# Altium integrated library TI Data Converters Analog to Digital Converter.IntLib: 2197 symbols (part 161 of 168)
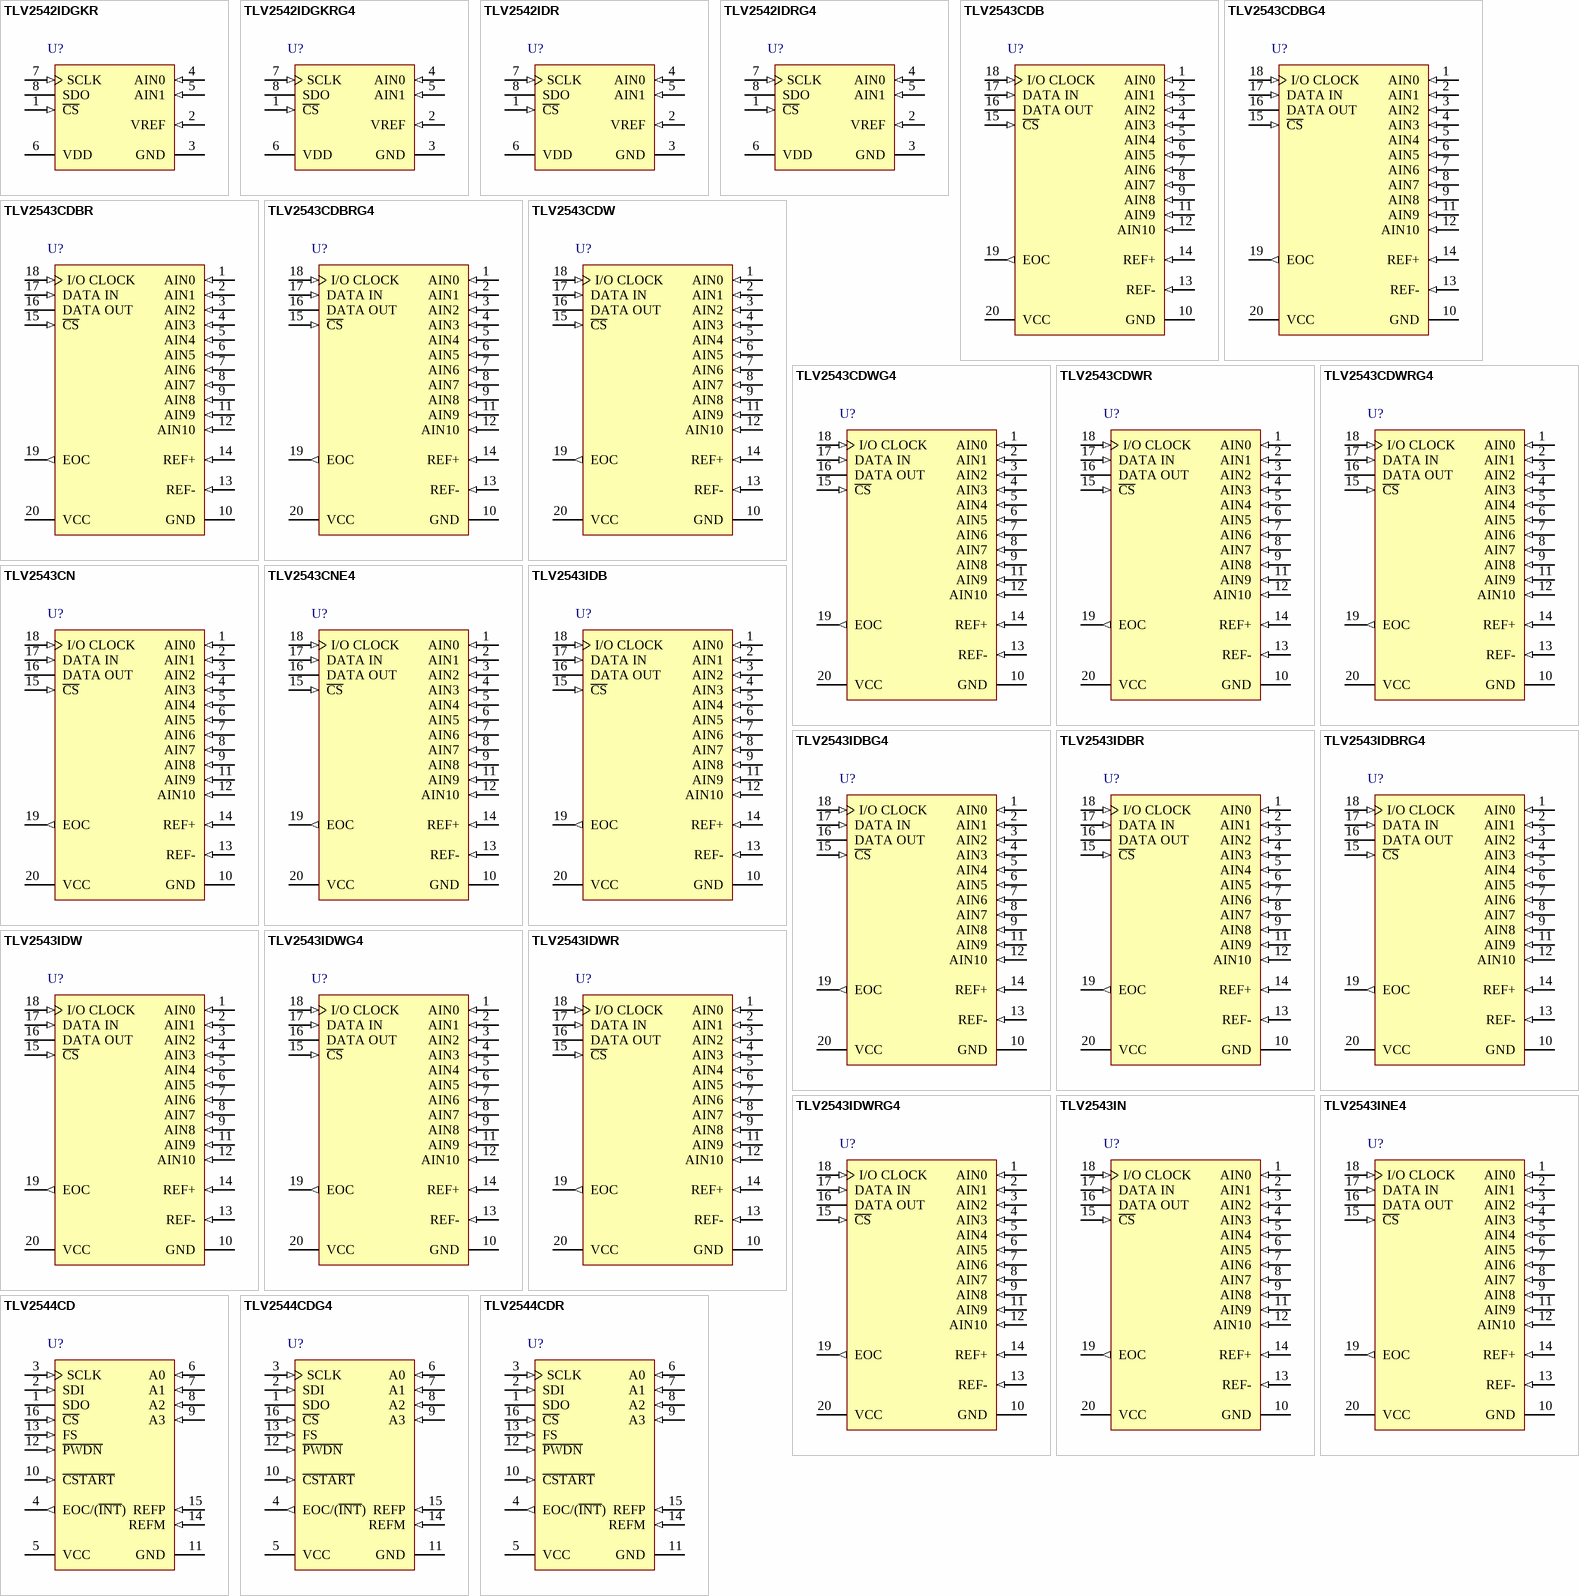
[diagram p286: symbols TLV2542IDGKR to TLV2544CDR]

## TLV2543IDBRG4
designator U?
12-Bit 66 kSPS ADC Serial Out, Programmable Power Down, MSB / LSB First, Built-in Self-Test Mode, 11 Channel, -40 to 85 degC, 20-pin SOP (DB20), Green (RoHS & no Sb/Br); Manufacturer: Texas Instruments; PartNumber: TLV2543IDBRG4; # Input Channels: 11; Analog Voltage AV/DD(Max)(V): 3.6; Analog Voltage AV/DD(Min)(V): 3; Architecture: SAR; INL(Max)(+/-LSB): 1; Interface: Serial SPI; Resolution(Bits): 12; Sample Rate (max)(SPS): 66k; SubFamily: Precision ADC (<=10MSPS); DatasheetVersion: SLAS096C; PackageVersion: 4040065/E, 12/2001; PackageReference: DB20; PackageDescription: 20-Pin Plastic Small Outline, Body 5.3 x 7.2 mm, Pitch 0.65 mm; Supplier 1: Digi-Key; Supplier Part Number 1: 296-24310-2-ND; Supplier 2: Digi-Key; Supplier Part Number 2: 296-24310-1-ND; Supplier 3: Digi-Key; Supplier Part Number 3: 296-24310-6-ND; Supplier 4: Newark; Supplier Part Number 4: 05R5222; Supplier 5: Mouser; Supplier Part Number 5: 595-ADS8254IBRGCT; Digital Supply(Max)(V): 3.6; Digital Supply(Min)(V): 3; Eco-Plan: Green (RoHS & no Sb/Br); Mounting Technology: Surface Mount; Code_JEDEC: MO-150; ComponentLink1Description: Manufacturer URL; ComponentLink1URL: http://www.ti.com/; ComponentLink2Description: Datasheet; ComponentLink2URL: http://www.ti.com/general/docs/lit/getliterature.tsp?genericPartNumber=TLV2543&fileType=pdf; ComponentLink3Description: Package Specification; ComponentLink3URL: http://www.ti.com/lit/ml/msso002e/msso002e.pdf
footprint TI-DB20_N (SOP, 20-Leads, Body 7.2x5.3mm, Pitch 0.65mm, IPC Medium Density)
footprint TI-DB20_L (SOP, 20-Leads, Body 7.2x5.3mm, Pitch 0.65mm, IPC High Density)
footprint TI-DB20_M (SOP, 20-Leads, Body 7.2x5.3mm, Pitch 0.65mm, IPC Low Density)
pins: 1 AIN0 (in) "Analog input. These 11 analog-signal inputs are internally multiplexed.", 2 AIN1 (in) "Analog input. These 11 analog-signal inputs are internally multiplexed.", 3 AIN2 (in) "Analog input. These 11 analog-signal inputs are internally multiplexed.", 4 AIN3 (in) "Analog input. These 11 analog-signal inputs are internally multiplexed.", 5 AIN4 (in) "Analog input. These 11 analog-signal inputs are internally multiplexed.", 6 AIN5 (in) "Analog input. These 11 analog-signal inputs are internally multiplexed.", 7 AIN6 (in) "Analog input. These 11 analog-signal inputs are internally multiplexed.", 8 AIN7 (in) "Analog input. These 11 analog-signal inputs are internally multiplexed.", 9 AIN8 (in) "Analog input. These 11 analog-signal inputs are internally multiplexed.", 10 GND (power) "Ground. GND is the ground return terminal for the internal circuitry. Unless otherwise noted, all voltage measurements are with respect to GND.", 11 AIN9 (in) "Analog input. These 11 analog-signal inputs are internally multiplexed.", 12 AIN10 (in) "Analog input. These 11 analog-signal inputs are internally multiplexed.", 13 REF- (in) "Negative reference voltage. The lower reference voltage value (nominally ground) is applied to REF-. This pin is connected to analog ground (GND of the ADC) when internal reference is used.", 14 REF+ (in) "Positive reference voltage The upper reference voltage value (nominally VCC) is applied to REF+. The maximum analog input voltage range is determined by the difference between the voltage applied to terminals REF+ and REF-.", 15 ~{CS} (in) "Chip select. A high-to-low transition on C\S\ resets the internal counters and controls and enables DATA OUT, DATA IN, and I/O CLOCK. A low-to-high transition disables DATA IN and I/O CLOCK within a setup time.", 16 DATA OUT (hiz) "The 3-state serial output for the A/D conversion result. DATA OUT is in the high-impedance state when C\S\ is high and active when C\S\ is low. With a valid C\S\, DATA OUT is removed from the high-impedance state and is (See Datasheet)", 17 DATA IN (in) "Serial data input. The 4-bit serial data can be used as address selects the desired analog input channel or test voltage to be converted next, or a command to activate other other features. The input data is presented with (See Datasheet)", 18 I/O CLOCK (in) "Input /output clock. I/O CLOCK receives the serial input and performs the following four functions:", 19 EOC (out) "Status output, used to indicate the end of conversion (EOC) to the host processor. EOC goes from a high to a low logic level after the falling edge of the last I/O CLOCK and remains low until the conversion is complete and (See Datasheet)", 20 VCC (power) "Positive supply voltage"

## TLV2543IDW
designator U?
12-Bit 66 kSPS ADC Serial Out, Programmable Power Down, MSB / LSB First, Built-in Self-Test Mode, 11 Channel, -40 to 85 degC, 20-pin SOIC (DW20), Green (RoHS & no Sb/Br); Manufacturer: Texas Instruments; PartNumber: TLV2543IDW; # Input Channels: 11; Analog Voltage AV/DD(Max)(V): 3.6; Analog Voltage AV/DD(Min)(V): 3; Architecture: SAR; INL(Max)(+/-LSB): 1; Interface: Serial SPI; Resolution(Bits): 12; Sample Rate (max)(SPS): 66k; SubFamily: Precision ADC (<=10MSPS); DatasheetVersion: SLAS096C; PackageVersion: 4040000-4/G, 01/2011; PackageReference: DW20; PackageDescription: 20-Pin Plastic Small Outline, Body 12.8 x 7.5 mm, Pitch 1.27 mm; Supplier 1: Digi-Key; Supplier Part Number 1: ADS8254IRGCR-ND; Supplier 2: Newark; Supplier Part Number 2: 09R3259; Supplier 3: Mouser; Supplier Part Number 3: 595-ADS8254IRGCR; Digital Supply(Max)(V): 3.6; Digital Supply(Min)(V): 3; Eco-Plan: Green (RoHS & no Sb/Br); Mounting Technology: Surface Mount; Code_JEDEC: MO-013; ComponentLink1Description: Manufacturer URL; ComponentLink1URL: http://www.ti.com/; ComponentLink2Description: Datasheet; ComponentLink2URL: http://www.ti.com/general/docs/lit/getliterature.tsp?genericPartNumber=TLV2543&fileType=pdf; ComponentLink3Description: Package Specification; ComponentLink3URL: http://www.ti.com/lit/ml/mpds173a/mpds173a.pdf
footprint TI-DW20_N (SOIC, 20-Leads, Body 12.8x7.5mm, Pitch 1.27mm, IPC Medium Density)
footprint TI-DW20_L (SOIC, 20-Leads, Body 12.8x7.5mm, Pitch 1.27mm, IPC High Density)
footprint TI-DW20_M (SOIC, 20-Leads, Body 12.8x7.5mm, Pitch 1.27mm, IPC Low Density)
pins: 1 AIN0 (in) "Analog input. These 11 analog-signal inputs are internally multiplexed.", 2 AIN1 (in) "Analog input. These 11 analog-signal inputs are internally multiplexed.", 3 AIN2 (in) "Analog input. These 11 analog-signal inputs are internally multiplexed.", 4 AIN3 (in) "Analog input. These 11 analog-signal inputs are internally multiplexed.", 5 AIN4 (in) "Analog input. These 11 analog-signal inputs are internally multiplexed.", 6 AIN5 (in) "Analog input. These 11 analog-signal inputs are internally multiplexed.", 7 AIN6 (in) "Analog input. These 11 analog-signal inputs are internally multiplexed.", 8 AIN7 (in) "Analog input. These 11 analog-signal inputs are internally multiplexed.", 9 AIN8 (in) "Analog input. These 11 analog-signal inputs are internally multiplexed.", 10 GND (power) "Ground. GND is the ground return terminal for the internal circuitry. Unless otherwise noted, all voltage measurements are with respect to GND.", 11 AIN9 (in) "Analog input. These 11 analog-signal inputs are internally multiplexed.", 12 AIN10 (in) "Analog input. These 11 analog-signal inputs are internally multiplexed.", 13 REF- (in) "Negative reference voltage. The lower reference voltage value (nominally ground) is applied to REF-. This pin is connected to analog ground (GND of the ADC) when internal reference is used.", 14 REF+ (in) "Positive reference voltage The upper reference voltage value (nominally VCC) is applied to REF+. The maximum analog input voltage range is determined by the difference between the voltage applied to terminals REF+ and REF-.", 15 ~{CS} (in) "Chip select. A high-to-low transition on C\S\ resets the internal counters and controls and enables DATA OUT, DATA IN, and I/O CLOCK. A low-to-high transition disables DATA IN and I/O CLOCK within a setup time.", 16 DATA OUT (hiz) "The 3-state serial output for the A/D conversion result. DATA OUT is in the high-impedance state when C\S\ is high and active when C\S\ is low. With a valid C\S\, DATA OUT is removed from the high-impedance state and is (See Datasheet)", 17 DATA IN (in) "Serial data input. The 4-bit serial data can be used as address selects the desired analog input channel or test voltage to be converted next, or a command to activate other other features. The input data is presented with (See Datasheet)", 18 I/O CLOCK (in) "Input /output clock. I/O CLOCK receives the serial input and performs the following four functions:", 19 EOC (out) "Status output, used to indicate the end of conversion (EOC) to the host processor. EOC goes from a high to a low logic level after the falling edge of the last I/O CLOCK and remains low until the conversion is complete and (See Datasheet)", 20 VCC (power) "Positive supply voltage"

## TLV2543IDWG4
designator U?
12-Bit 66 kSPS ADC Serial Out, Programmable Power Down, MSB / LSB First, Built-in Self-Test Mode, 11 Channel, -40 to 85 degC, 20-pin SOIC (DW20), Green (RoHS & no Sb/Br); Manufacturer: Texas Instruments; PartNumber: TLV2543IDWG4; # Input Channels: 11; Analog Voltage AV/DD(Max)(V): 3.6; Analog Voltage AV/DD(Min)(V): 3; Architecture: SAR; INL(Max)(+/-LSB): 1; Interface: Serial SPI; Resolution(Bits): 12; Sample Rate (max)(SPS): 66k; SubFamily: Precision ADC (<=10MSPS); DatasheetVersion: SLAS096C; PackageVersion: 4040000-4/G, 01/2011; PackageReference: DW20; PackageDescription: 20-Pin Plastic Small Outline, Body 12.8 x 7.5 mm, Pitch 1.27 mm; Supplier 1: Digi-Key; Supplier Part Number 1: 296-24311-2-ND; Supplier 2: Digi-Key; Supplier Part Number 2: 296-24311-1-ND; Supplier 3: Digi-Key; Supplier Part Number 3: 296-24311-6-ND; Supplier 4: Newark; Supplier Part Number 4: 09R3260; Supplier 5: Mouser; Supplier Part Number 5: 595-ADS8254IRGCT; Digital Supply(Max)(V): 3.6; Digital Supply(Min)(V): 3; Eco-Plan: Green (RoHS & no Sb/Br); Mounting Technology: Surface Mount; Code_JEDEC: MO-013; ComponentLink1Description: Manufacturer URL; ComponentLink1URL: http://www.ti.com/; ComponentLink2Description: Datasheet; ComponentLink2URL: http://www.ti.com/general/docs/lit/getliterature.tsp?genericPartNumber=TLV2543&fileType=pdf; ComponentLink3Description: Package Specification; ComponentLink3URL: http://www.ti.com/lit/ml/mpds173a/mpds173a.pdf
footprint TI-DW20_N (SOIC, 20-Leads, Body 12.8x7.5mm, Pitch 1.27mm, IPC Medium Density)
footprint TI-DW20_L (SOIC, 20-Leads, Body 12.8x7.5mm, Pitch 1.27mm, IPC High Density)
footprint TI-DW20_M (SOIC, 20-Leads, Body 12.8x7.5mm, Pitch 1.27mm, IPC Low Density)
pins: 1 AIN0 (in) "Analog input. These 11 analog-signal inputs are internally multiplexed.", 2 AIN1 (in) "Analog input. These 11 analog-signal inputs are internally multiplexed.", 3 AIN2 (in) "Analog input. These 11 analog-signal inputs are internally multiplexed.", 4 AIN3 (in) "Analog input. These 11 analog-signal inputs are internally multiplexed.", 5 AIN4 (in) "Analog input. These 11 analog-signal inputs are internally multiplexed.", 6 AIN5 (in) "Analog input. These 11 analog-signal inputs are internally multiplexed.", 7 AIN6 (in) "Analog input. These 11 analog-signal inputs are internally multiplexed.", 8 AIN7 (in) "Analog input. These 11 analog-signal inputs are internally multiplexed.", 9 AIN8 (in) "Analog input. These 11 analog-signal inputs are internally multiplexed.", 10 GND (power) "Ground. GND is the ground return terminal for the internal circuitry. Unless otherwise noted, all voltage measurements are with respect to GND.", 11 AIN9 (in) "Analog input. These 11 analog-signal inputs are internally multiplexed.", 12 AIN10 (in) "Analog input. These 11 analog-signal inputs are internally multiplexed.", 13 REF- (in) "Negative reference voltage. The lower reference voltage value (nominally ground) is applied to REF-. This pin is connected to analog ground (GND of the ADC) when internal reference is used.", 14 REF+ (in) "Positive reference voltage The upper reference voltage value (nominally VCC) is applied to REF+. The maximum analog input voltage range is determined by the difference between the voltage applied to terminals REF+ and REF-.", 15 ~{CS} (in) "Chip select. A high-to-low transition on C\S\ resets the internal counters and controls and enables DATA OUT, DATA IN, and I/O CLOCK. A low-to-high transition disables DATA IN and I/O CLOCK within a setup time.", 16 DATA OUT (hiz) "The 3-state serial output for the A/D conversion result. DATA OUT is in the high-impedance state when C\S\ is high and active when C\S\ is low. With a valid C\S\, DATA OUT is removed from the high-impedance state and is (See Datasheet)", 17 DATA IN (in) "Serial data input. The 4-bit serial data can be used as address selects the desired analog input channel or test voltage to be converted next, or a command to activate other other features. The input data is presented with (See Datasheet)", 18 I/O CLOCK (in) "Input /output clock. I/O CLOCK receives the serial input and performs the following four functions:", 19 EOC (out) "Status output, used to indicate the end of conversion (EOC) to the host processor. EOC goes from a high to a low logic level after the falling edge of the last I/O CLOCK and remains low until the conversion is complete and (See Datasheet)", 20 VCC (power) "Positive supply voltage"

## TLV2543IDWR
designator U?
12-Bit 66 kSPS ADC Serial Out, Programmable Power Down, MSB / LSB First, Built-in Self-Test Mode, 11 Channel, -40 to 85 degC, 20-pin SOIC (DW20), Green (RoHS & no Sb/Br); Manufacturer: Texas Instruments; PartNumber: TLV2543IDWR; # Input Channels: 11; Analog Voltage AV/DD(Max)(V): 3.6; Analog Voltage AV/DD(Min)(V): 3; Architecture: SAR; INL(Max)(+/-LSB): 1; Interface: Serial SPI; Resolution(Bits): 12; Sample Rate (max)(SPS): 66k; SubFamily: Precision ADC (<=10MSPS); DatasheetVersion: SLAS096C; PackageVersion: 4040000-4/G, 01/2011; PackageReference: DW20; PackageDescription: 20-Pin Plastic Small Outline, Body 12.8 x 7.5 mm, Pitch 1.27 mm; Supplier 1: Digi-Key; Supplier Part Number 1: 296-24294-5-ND; Supplier 2: Farnell; Supplier Part Number 2: 1735557; Supplier 3: Newark; Supplier Part Number 3: 05R0320; Supplier 4: Mouser; Supplier Part Number 4: 595-ADS1248IPW; Digital Supply(Max)(V): 3.6; Digital Supply(Min)(V): 3; Eco-Plan: Green (RoHS & no Sb/Br); Mounting Technology: Surface Mount; Code_JEDEC: MO-013; ComponentLink1Description: Manufacturer URL; ComponentLink1URL: http://www.ti.com/; ComponentLink2Description: Datasheet; ComponentLink2URL: http://www.ti.com/general/docs/lit/getliterature.tsp?genericPartNumber=TLV2543&fileType=pdf; ComponentLink3Description: Package Specification; ComponentLink3URL: http://www.ti.com/lit/ml/mpds173a/mpds173a.pdf
footprint TI-DW20_N (SOIC, 20-Leads, Body 12.8x7.5mm, Pitch 1.27mm, IPC Medium Density)
footprint TI-DW20_L (SOIC, 20-Leads, Body 12.8x7.5mm, Pitch 1.27mm, IPC High Density)
footprint TI-DW20_M (SOIC, 20-Leads, Body 12.8x7.5mm, Pitch 1.27mm, IPC Low Density)
pins: 1 AIN0 (in) "Analog input. These 11 analog-signal inputs are internally multiplexed.", 2 AIN1 (in) "Analog input. These 11 analog-signal inputs are internally multiplexed.", 3 AIN2 (in) "Analog input. These 11 analog-signal inputs are internally multiplexed.", 4 AIN3 (in) "Analog input. These 11 analog-signal inputs are internally multiplexed.", 5 AIN4 (in) "Analog input. These 11 analog-signal inputs are internally multiplexed.", 6 AIN5 (in) "Analog input. These 11 analog-signal inputs are internally multiplexed.", 7 AIN6 (in) "Analog input. These 11 analog-signal inputs are internally multiplexed.", 8 AIN7 (in) "Analog input. These 11 analog-signal inputs are internally multiplexed.", 9 AIN8 (in) "Analog input. These 11 analog-signal inputs are internally multiplexed.", 10 GND (power) "Ground. GND is the ground return terminal for the internal circuitry. Unless otherwise noted, all voltage measurements are with respect to GND.", 11 AIN9 (in) "Analog input. These 11 analog-signal inputs are internally multiplexed.", 12 AIN10 (in) "Analog input. These 11 analog-signal inputs are internally multiplexed.", 13 REF- (in) "Negative reference voltage. The lower reference voltage value (nominally ground) is applied to REF-. This pin is connected to analog ground (GND of the ADC) when internal reference is used.", 14 REF+ (in) "Positive reference voltage The upper reference voltage value (nominally VCC) is applied to REF+. The maximum analog input voltage range is determined by the difference between the voltage applied to terminals REF+ and REF-.", 15 ~{CS} (in) "Chip select. A high-to-low transition on C\S\ resets the internal counters and controls and enables DATA OUT, DATA IN, and I/O CLOCK. A low-to-high transition disables DATA IN and I/O CLOCK within a setup time.", 16 DATA OUT (hiz) "The 3-state serial output for the A/D conversion result. DATA OUT is in the high-impedance state when C\S\ is high and active when C\S\ is low. With a valid C\S\, DATA OUT is removed from the high-impedance state and is (See Datasheet)", 17 DATA IN (in) "Serial data input. The 4-bit serial data can be used as address selects the desired analog input channel or test voltage to be converted next, or a command to activate other other features. The input data is presented with (See Datasheet)", 18 I/O CLOCK (in) "Input /output clock. I/O CLOCK receives the serial input and performs the following four functions:", 19 EOC (out) "Status output, used to indicate the end of conversion (EOC) to the host processor. EOC goes from a high to a low logic level after the falling edge of the last I/O CLOCK and remains low until the conversion is complete and (See Datasheet)", 20 VCC (power) "Positive supply voltage"

## TLV2543IDWRG4
designator U?
12-Bit 66 kSPS ADC Serial Out, Programmable Power Down, MSB / LSB First, Built-in Self-Test Mode, 11 Channel, -40 to 85 degC, 20-pin SOIC (DW20), Green (RoHS & no Sb/Br); Manufacturer: Texas Instruments; PartNumber: TLV2543IDWRG4; # Input Channels: 11; Analog Voltage AV/DD(Max)(V): 3.6; Analog Voltage AV/DD(Min)(V): 3; Architecture: SAR; INL(Max)(+/-LSB): 1; Interface: Serial SPI; Resolution(Bits): 12; Sample Rate (max)(SPS): 66k; SubFamily: Precision ADC (<=10MSPS); DatasheetVersion: SLAS096C; PackageVersion: 4040000-4/G, 01/2011; PackageReference: DW20; PackageDescription: 20-Pin Plastic Small Outline, Body 12.8 x 7.5 mm, Pitch 1.27 mm; Supplier 1: Digi-Key; Supplier Part Number 1: ADS1248IPWR-ND; Supplier 2: Newark; Supplier Part Number 2: 09R3235; Supplier 3: Mouser; Supplier Part Number 3: 595-ADS1248IPWR; Digital Supply(Max)(V): 3.6; Digital Supply(Min)(V): 3; Eco-Plan: Green (RoHS & no Sb/Br); Mounting Technology: Surface Mount; Code_JEDEC: MO-013; ComponentLink1Description: Manufacturer URL; ComponentLink1URL: http://www.ti.com/; ComponentLink2Description: Datasheet; ComponentLink2URL: http://www.ti.com/general/docs/lit/getliterature.tsp?genericPartNumber=TLV2543&fileType=pdf; ComponentLink3Description: Package Specification; ComponentLink3URL: http://www.ti.com/lit/ml/mpds173a/mpds173a.pdf
footprint TI-DW20_N (SOIC, 20-Leads, Body 12.8x7.5mm, Pitch 1.27mm, IPC Medium Density)
footprint TI-DW20_L (SOIC, 20-Leads, Body 12.8x7.5mm, Pitch 1.27mm, IPC High Density)
footprint TI-DW20_M (SOIC, 20-Leads, Body 12.8x7.5mm, Pitch 1.27mm, IPC Low Density)
pins: 1 AIN0 (in) "Analog input. These 11 analog-signal inputs are internally multiplexed.", 2 AIN1 (in) "Analog input. These 11 analog-signal inputs are internally multiplexed.", 3 AIN2 (in) "Analog input. These 11 analog-signal inputs are internally multiplexed.", 4 AIN3 (in) "Analog input. These 11 analog-signal inputs are internally multiplexed.", 5 AIN4 (in) "Analog input. These 11 analog-signal inputs are internally multiplexed.", 6 AIN5 (in) "Analog input. These 11 analog-signal inputs are internally multiplexed.", 7 AIN6 (in) "Analog input. These 11 analog-signal inputs are internally multiplexed.", 8 AIN7 (in) "Analog input. These 11 analog-signal inputs are internally multiplexed.", 9 AIN8 (in) "Analog input. These 11 analog-signal inputs are internally multiplexed.", 10 GND (power) "Ground. GND is the ground return terminal for the internal circuitry. Unless otherwise noted, all voltage measurements are with respect to GND.", 11 AIN9 (in) "Analog input. These 11 analog-signal inputs are internally multiplexed.", 12 AIN10 (in) "Analog input. These 11 analog-signal inputs are internally multiplexed.", 13 REF- (in) "Negative reference voltage. The lower reference voltage value (nominally ground) is applied to REF-. This pin is connected to analog ground (GND of the ADC) when internal reference is used.", 14 REF+ (in) "Positive reference voltage The upper reference voltage value (nominally VCC) is applied to REF+. The maximum analog input voltage range is determined by the difference between the voltage applied to terminals REF+ and REF-.", 15 ~{CS} (in) "Chip select. A high-to-low transition on C\S\ resets the internal counters and controls and enables DATA OUT, DATA IN, and I/O CLOCK. A low-to-high transition disables DATA IN and I/O CLOCK within a setup time.", 16 DATA OUT (hiz) "The 3-state serial output for the A/D conversion result. DATA OUT is in the high-impedance state when C\S\ is high and active when C\S\ is low. With a valid C\S\, DATA OUT is removed from the high-impedance state and is (See Datasheet)", 17 DATA IN (in) "Serial data input. The 4-bit serial data can be used as address selects the desired analog input channel or test voltage to be converted next, or a command to activate other other features. The input data is presented with (See Datasheet)", 18 I/O CLOCK (in) "Input /output clock. I/O CLOCK receives the serial input and performs the following four functions:", 19 EOC (out) "Status output, used to indicate the end of conversion (EOC) to the host processor. EOC goes from a high to a low logic level after the falling edge of the last I/O CLOCK and remains low until the conversion is complete and (See Datasheet)", 20 VCC (power) "Positive supply voltage"

## TLV2543IN
designator U?
12-Bit 66 kSPS ADC Serial Out, Programmable Power Down, MSB / LSB First, Built-in Self-Test Mode, 11 Channel, -40 to 85 degC, 20-pin DIP (N20), Pb-Free (RoHS); Manufacturer: Texas Instruments; PartNumber: TLV2543IN; # Input Channels: 11; Analog Voltage AV/DD(Max)(V): 3.6; Analog Voltage AV/DD(Min)(V): 3; Architecture: SAR; INL(Max)(+/-LSB): 1; Interface: Serial SPI; Resolution(Bits): 12; Sample Rate (max)(SPS): 66k; SubFamily: Precision ADC (<=10MSPS); DatasheetVersion: SLAS096C; PackageVersion: 4040049/E, 12/2002; PackageReference: N20; PackageDescription: 20-Pin Plastic In-Line, Body 25.40 x 6.35 mm, Pitch 2.54 mm; Supplier 1: Digi-Key; Supplier Part Number 1: 296-24293-5-ND; Supplier 2: Farnell; Supplier Part Number 2: 1735556; Supplier 3: Newark; Supplier Part Number 3: 05R0319; Supplier 4: Mouser; Supplier Part Number 4: 595-ADS1247IPW; Digital Supply(Max)(V): 3.6; Digital Supply(Min)(V): 3; Eco-Plan: Pb-Free (RoHS); Mounting Technology: Through Hole; Code_JEDEC: MS-001; ComponentLink1Description: Manufacturer URL; ComponentLink1URL: http://www.ti.com/; ComponentLink2Description: Datasheet; ComponentLink2URL: http://www.ti.com/general/docs/lit/getliterature.tsp?genericPartNumber=TLV2543&fileType=pdf; ComponentLink3Description: Package Specification; ComponentLink3URL: http://www.ti.com/lit/ml/mpdi002c/mpdi002c.pdf
footprint TI-N20 (DIP, 20-Leads, Body 25.4x6.35 mm, Pitch 2.54 mm)
pins: 1 AIN0 (in) "Analog input. These 11 analog-signal inputs are internally multiplexed.", 2 AIN1 (in) "Analog input. These 11 analog-signal inputs are internally multiplexed.", 3 AIN2 (in) "Analog input. These 11 analog-signal inputs are internally multiplexed.", 4 AIN3 (in) "Analog input. These 11 analog-signal inputs are internally multiplexed.", 5 AIN4 (in) "Analog input. These 11 analog-signal inputs are internally multiplexed.", 6 AIN5 (in) "Analog input. These 11 analog-signal inputs are internally multiplexed.", 7 AIN6 (in) "Analog input. These 11 analog-signal inputs are internally multiplexed.", 8 AIN7 (in) "Analog input. These 11 analog-signal inputs are internally multiplexed.", 9 AIN8 (in) "Analog input. These 11 analog-signal inputs are internally multiplexed.", 10 GND (power) "Ground. GND is the ground return terminal for the internal circuitry. Unless otherwise noted, all voltage measurements are with respect to GND.", 11 AIN9 (in) "Analog input. These 11 analog-signal inputs are internally multiplexed.", 12 AIN10 (in) "Analog input. These 11 analog-signal inputs are internally multiplexed.", 13 REF- (in) "Negative reference voltage. The lower reference voltage value (nominally ground) is applied to REF-. This pin is connected to analog ground (GND of the ADC) when internal reference is used.", 14 REF+ (in) "Positive reference voltage The upper reference voltage value (nominally VCC) is applied to REF+. The maximum analog input voltage range is determined by the difference between the voltage applied to terminals REF+ and REF-.", 15 ~{CS} (in) "Chip select. A high-to-low transition on C\S\ resets the internal counters and controls and enables DATA OUT, DATA IN, and I/O CLOCK. A low-to-high transition disables DATA IN and I/O CLOCK within a setup time.", 16 DATA OUT (hiz) "The 3-state serial output for the A/D conversion result. DATA OUT is in the high-impedance state when C\S\ is high and active when C\S\ is low. With a valid C\S\, DATA OUT is removed from the high-impedance state and is (See Datasheet)", 17 DATA IN (in) "Serial data input. The 4-bit serial data can be used as address selects the desired analog input channel or test voltage to be converted next, or a command to activate other other features. The input data is presented with (See Datasheet)", 18 I/O CLOCK (in) "Input /output clock. I/O CLOCK receives the serial input and performs the following four functions:", 19 EOC (out) "Status output, used to indicate the end of conversion (EOC) to the host processor. EOC goes from a high to a low logic level after the falling edge of the last I/O CLOCK and remains low until the conversion is complete and (See Datasheet)", 20 VCC (power) "Positive supply voltage"

## TLV2543INE4
designator U?
12-Bit 66 kSPS ADC Serial Out, Programmable Power Down, MSB / LSB First, Built-in Self-Test Mode, 11 Channel, -40 to 85 degC, 20-pin DIP (N20), Pb-Free (RoHS); Manufacturer: Texas Instruments; PartNumber: TLV2543INE4; # Input Channels: 11; Analog Voltage AV/DD(Max)(V): 3.6; Analog Voltage AV/DD(Min)(V): 3; Architecture: SAR; INL(Max)(+/-LSB): 1; Interface: Serial SPI; Resolution(Bits): 12; Sample Rate (max)(SPS): 66k; SubFamily: Precision ADC (<=10MSPS); DatasheetVersion: SLAS096C; PackageVersion: 4040049/E, 12/2002; PackageReference: N20; PackageDescription: 20-Pin Plastic In-Line, Body 25.40 x 6.35 mm, Pitch 2.54 mm; Supplier 1: Digi-Key; Supplier Part Number 1: ADS1247IPWR-ND; Supplier 2: Newark; Supplier Part Number 2: 09R3234; Supplier 3: Mouser; Supplier Part Number 3: 595-ADS1247IPWR; Digital Supply(Max)(V): 3.6; Digital Supply(Min)(V): 3; Eco-Plan: Pb-Free (RoHS); Mounting Technology: Through Hole; Code_JEDEC: MS-001; ComponentLink1Description: Manufacturer URL; ComponentLink1URL: http://www.ti.com/; ComponentLink2Description: Datasheet; ComponentLink2URL: http://www.ti.com/general/docs/lit/getliterature.tsp?genericPartNumber=TLV2543&fileType=pdf; ComponentLink3Description: Package Specification; ComponentLink3URL: http://www.ti.com/lit/ml/mpdi002c/mpdi002c.pdf
footprint TI-N20 (DIP, 20-Leads, Body 25.4x6.35 mm, Pitch 2.54 mm)
pins: 1 AIN0 (in) "Analog input. These 11 analog-signal inputs are internally multiplexed.", 2 AIN1 (in) "Analog input. These 11 analog-signal inputs are internally multiplexed.", 3 AIN2 (in) "Analog input. These 11 analog-signal inputs are internally multiplexed.", 4 AIN3 (in) "Analog input. These 11 analog-signal inputs are internally multiplexed.", 5 AIN4 (in) "Analog input. These 11 analog-signal inputs are internally multiplexed.", 6 AIN5 (in) "Analog input. These 11 analog-signal inputs are internally multiplexed.", 7 AIN6 (in) "Analog input. These 11 analog-signal inputs are internally multiplexed.", 8 AIN7 (in) "Analog input. These 11 analog-signal inputs are internally multiplexed.", 9 AIN8 (in) "Analog input. These 11 analog-signal inputs are internally multiplexed.", 10 GND (power) "Ground. GND is the ground return terminal for the internal circuitry. Unless otherwise noted, all voltage measurements are with respect to GND.", 11 AIN9 (in) "Analog input. These 11 analog-signal inputs are internally multiplexed.", 12 AIN10 (in) "Analog input. These 11 analog-signal inputs are internally multiplexed.", 13 REF- (in) "Negative reference voltage. The lower reference voltage value (nominally ground) is applied to REF-. This pin is connected to analog ground (GND of the ADC) when internal reference is used.", 14 REF+ (in) "Positive reference voltage The upper reference voltage value (nominally VCC) is applied to REF+. The maximum analog input voltage range is determined by the difference between the voltage applied to terminals REF+ and REF-.", 15 ~{CS} (in) "Chip select. A high-to-low transition on C\S\ resets the internal counters and controls and enables DATA OUT, DATA IN, and I/O CLOCK. A low-to-high transition disables DATA IN and I/O CLOCK within a setup time.", 16 DATA OUT (hiz) "The 3-state serial output for the A/D conversion result. DATA OUT is in the high-impedance state when C\S\ is high and active when C\S\ is low. With a valid C\S\, DATA OUT is removed from the high-impedance state and is (See Datasheet)", 17 DATA IN (in) "Serial data input. The 4-bit serial data can be used as address selects the desired analog input channel or test voltage to be converted next, or a command to activate other other features. The input data is presented with (See Datasheet)", 18 I/O CLOCK (in) "Input /output clock. I/O CLOCK receives the serial input and performs the following four functions:", 19 EOC (out) "Status output, used to indicate the end of conversion (EOC) to the host processor. EOC goes from a high to a low logic level after the falling edge of the last I/O CLOCK and remains low until the conversion is complete and (See Datasheet)", 20 VCC (power) "Positive supply voltage"

## TLV2544CD
designator U?
12-Bit 200 kSPS ADC Serial Out, Auto Power Down (Software and Hardware), Low Power with 8 x FIFO with 4 Channel, 0 to 70 degC, 16-pin SOIC (D16), Green (RoHS & no Sb/Br); Manufacturer: Texas Instruments; PartNumber: TLV2544CD; # Input Channels: 4; Analog Voltage AV/DD(Max)(V): 5.5; Analog Voltage AV/DD(Min)(V): 2.7; Architecture: SAR; ENOB(Bits): 11.6; INL(Max)(+/-LSB): 1; Interface: Serial SPI; Resolution(Bits): 12; Sample Rate (max)(SPS): 200k; SFDR(dB): 84; SINAD(dB): 70; SubFamily: Precision ADC (<=10MSPS); DatasheetVersion: SLAS198E; PackageVersion: 4040047-6/M, 06/2011; PackageReference: D16; PackageDescription: 16-Pin Plastic Small Outline, Body 9.9 x 3.9 mm, Pitch 1.27 mm; Supplier 1: Digi-Key; Supplier Part Number 1: 296-24292-5-ND; Supplier 2: Farnell; Supplier Part Number 2: 1735555; Supplier 3: Newark; Supplier Part Number 3: 05R0318; Supplier 4: Mouser; Supplier Part Number 4: 595-ADS1246IPW; Digital Supply(Max)(V): 5.5; Digital Supply(Min)(V): 2.7; Eco-Plan: Green (RoHS & no Sb/Br); Mounting Technology: Surface Mount; Code_JEDEC: MS-012; ComponentLink1Description: Manufacturer URL; ComponentLink1URL: http://www.ti.com/; ComponentLink2Description: Datasheet; ComponentLink2URL: http://www.ti.com/general/docs/lit/getliterature.tsp?genericPartNumber=TLV2544&fileType=pdf; ComponentLink3Description: Package Specification; ComponentLink3URL: http://www.ti.com/litv/pdf/mpds178g
footprint TI-D16_N (SOIC, 16-Leads, Body 9.9x3.9mm, Pitch 1.27mm, IPC Medium Density)
footprint TI-D16_L (SOIC, 16-Leads, Body 9.9x3.9mm, Pitch 1.27mm, IPC High Density)
footprint TI-D16_M (SOIC, 16-Leads, Body 9.9x3.9mm, Pitch 1.27mm, IPC Low Density)
pins: 1 SDO (hiz) "The 3-state serial output for the A/D conversion result.", 2 SDI (in) "Serial data input.", 3 SCLK (in) "Input serial clock.", 4 EOC/(~{INT}) (out) "End of conversion or interrupt to host processor.", 5 VCC (power) "Positive supply voltage.", 6 A0 (in) "Analog signal inputs.", 7 A1 (in) "Analog signal inputs.", 8 A2 (in) "Analog signal inputs.", 9 A3 (in) "Analog signal inputs.", 10 ~{CSTART} (in) "This terminal controls the start of sampling of the analog input from a selected multiplex channel.", 11 GND (power) "Ground return for the internal circuitry.", 12 ~{PWDN} (in) "Both analog and reference circuits are powered down when this pin is at logic zero.", 13 FS (in) "DSP frame sync input. Indication of the start of a serial data frame in or out of the device.", 14 REFM (in) "External reference input or internal reference decoupling.", 15 REFP (in) "External reference input or internal reference decoupling.", 16 ~{CS} (in) "Chip select."

## TLV2544CDG4
designator U?
12-Bit 200 kSPS ADC Serial Out, Auto Power Down (Software and Hardware), Low Power with 8 x FIFO with 4 Channel, 0 to 70 degC, 16-pin SOIC (D16), Green (RoHS & no Sb/Br); Manufacturer: Texas Instruments; PartNumber: TLV2544CDG4; # Input Channels: 4; Analog Voltage AV/DD(Max)(V): 5.5; Analog Voltage AV/DD(Min)(V): 2.7; Architecture: SAR; ENOB(Bits): 11.6; INL(Max)(+/-LSB): 1; Interface: Serial SPI; Resolution(Bits): 12; Sample Rate (max)(SPS): 200k; SFDR(dB): 84; SINAD(dB): 70; SubFamily: Precision ADC (<=10MSPS); DatasheetVersion: SLAS198E; PackageVersion: 4040047-6/M, 06/2011; PackageReference: D16; PackageDescription: 16-Pin Plastic Small Outline, Body 9.9 x 3.9 mm, Pitch 1.27 mm; Supplier 1: Digi-Key; Supplier Part Number 1: ADS1246IPWR-ND; Supplier 2: Newark; Supplier Part Number 2: 09R3233; Supplier 3: Mouser; Supplier Part Number 3: 595-ADS1246IPWR; Digital Supply(Max)(V): 5.5; Digital Supply(Min)(V): 2.7; Eco-Plan: Green (RoHS & no Sb/Br); Mounting Technology: Surface Mount; Code_JEDEC: MS-012; ComponentLink1Description: Manufacturer URL; ComponentLink1URL: http://www.ti.com/; ComponentLink2Description: Datasheet; ComponentLink2URL: http://www.ti.com/general/docs/lit/getliterature.tsp?genericPartNumber=TLV2544&fileType=pdf; ComponentLink3Description: Package Specification; ComponentLink3URL: http://www.ti.com/litv/pdf/mpds178g
footprint TI-D16_N (SOIC, 16-Leads, Body 9.9x3.9mm, Pitch 1.27mm, IPC Medium Density)
footprint TI-D16_L (SOIC, 16-Leads, Body 9.9x3.9mm, Pitch 1.27mm, IPC High Density)
footprint TI-D16_M (SOIC, 16-Leads, Body 9.9x3.9mm, Pitch 1.27mm, IPC Low Density)
pins: 1 SDO (hiz) "The 3-state serial output for the A/D conversion result.", 2 SDI (in) "Serial data input.", 3 SCLK (in) "Input serial clock.", 4 EOC/(~{INT}) (out) "End of conversion or interrupt to host processor.", 5 VCC (power) "Positive supply voltage.", 6 A0 (in) "Analog signal inputs.", 7 A1 (in) "Analog signal inputs.", 8 A2 (in) "Analog signal inputs.", 9 A3 (in) "Analog signal inputs.", 10 ~{CSTART} (in) "This terminal controls the start of sampling of the analog input from a selected multiplex channel.", 11 GND (power) "Ground return for the internal circuitry.", 12 ~{PWDN} (in) "Both analog and reference circuits are powered down when this pin is at logic zero.", 13 FS (in) "DSP frame sync input. Indication of the start of a serial data frame in or out of the device.", 14 REFM (in) "External reference input or internal reference decoupling.", 15 REFP (in) "External reference input or internal reference decoupling.", 16 ~{CS} (in) "Chip select."

## TLV2544CDR
designator U?
12-Bit 200 kSPS ADC Serial Out, Auto Power Down (Software and Hardware), Low Power with 8 x FIFO with 4 Channel, 0 to 70 degC, 16-pin SOIC (D16), Green (RoHS & no Sb/Br); Manufacturer: Texas Instruments; PartNumber: TLV2544CDR; # Input Channels: 4; Analog Voltage AV/DD(Max)(V): 5.5; Analog Voltage AV/DD(Min)(V): 2.7; Architecture: SAR; ENOB(Bits): 11.6; INL(Max)(+/-LSB): 1; Interface: Serial SPI; Resolution(Bits): 12; Sample Rate (max)(SPS): 200k; SFDR(dB): 84; SINAD(dB): 70; SubFamily: Precision ADC (<=10MSPS); DatasheetVersion: SLAS198E; PackageVersion: 4040047-6/M, 06/2011; PackageReference: D16; PackageDescription: 16-Pin Plastic Small Outline, Body 9.9 x 3.9 mm, Pitch 1.27 mm; Supplier 1: Digi-Key; Supplier Part Number 1: AFE5851IRGCR-ND; Supplier 2: Mouser; Supplier Part Number 2: 595-AFE5851IRGCR; Digital Supply(Max)(V): 5.5; Digital Supply(Min)(V): 2.7; Eco-Plan: Green (RoHS & no Sb/Br); Mounting Technology: Surface Mount; Code_JEDEC: MS-012; ComponentLink1Description: Manufacturer URL; ComponentLink1URL: http://www.ti.com/; ComponentLink2Description: Datasheet; ComponentLink2URL: http://www.ti.com/general/docs/lit/getliterature.tsp?genericPartNumber=TLV2544&fileType=pdf; ComponentLink3Description: Package Specification; ComponentLink3URL: http://www.ti.com/litv/pdf/mpds178g
footprint TI-D16_N (SOIC, 16-Leads, Body 9.9x3.9mm, Pitch 1.27mm, IPC Medium Density)
footprint TI-D16_L (SOIC, 16-Leads, Body 9.9x3.9mm, Pitch 1.27mm, IPC High Density)
footprint TI-D16_M (SOIC, 16-Leads, Body 9.9x3.9mm, Pitch 1.27mm, IPC Low Density)
pins: 1 SDO (hiz) "The 3-state serial output for the A/D conversion result.", 2 SDI (in) "Serial data input.", 3 SCLK (in) "Input serial clock.", 4 EOC/(~{INT}) (out) "End of conversion or interrupt to host processor.", 5 VCC (power) "Positive supply voltage.", 6 A0 (in) "Analog signal inputs.", 7 A1 (in) "Analog signal inputs.", 8 A2 (in) "Analog signal inputs.", 9 A3 (in) "Analog signal inputs.", 10 ~{CSTART} (in) "This terminal controls the start of sampling of the analog input from a selected multiplex channel.", 11 GND (power) "Ground return for the internal circuitry.", 12 ~{PWDN} (in) "Both analog and reference circuits are powered down when this pin is at logic zero.", 13 FS (in) "DSP frame sync input. Indication of the start of a serial data frame in or out of the device.", 14 REFM (in) "External reference input or internal reference decoupling.", 15 REFP (in) "External reference input or internal reference decoupling.", 16 ~{CS} (in) "Chip select."

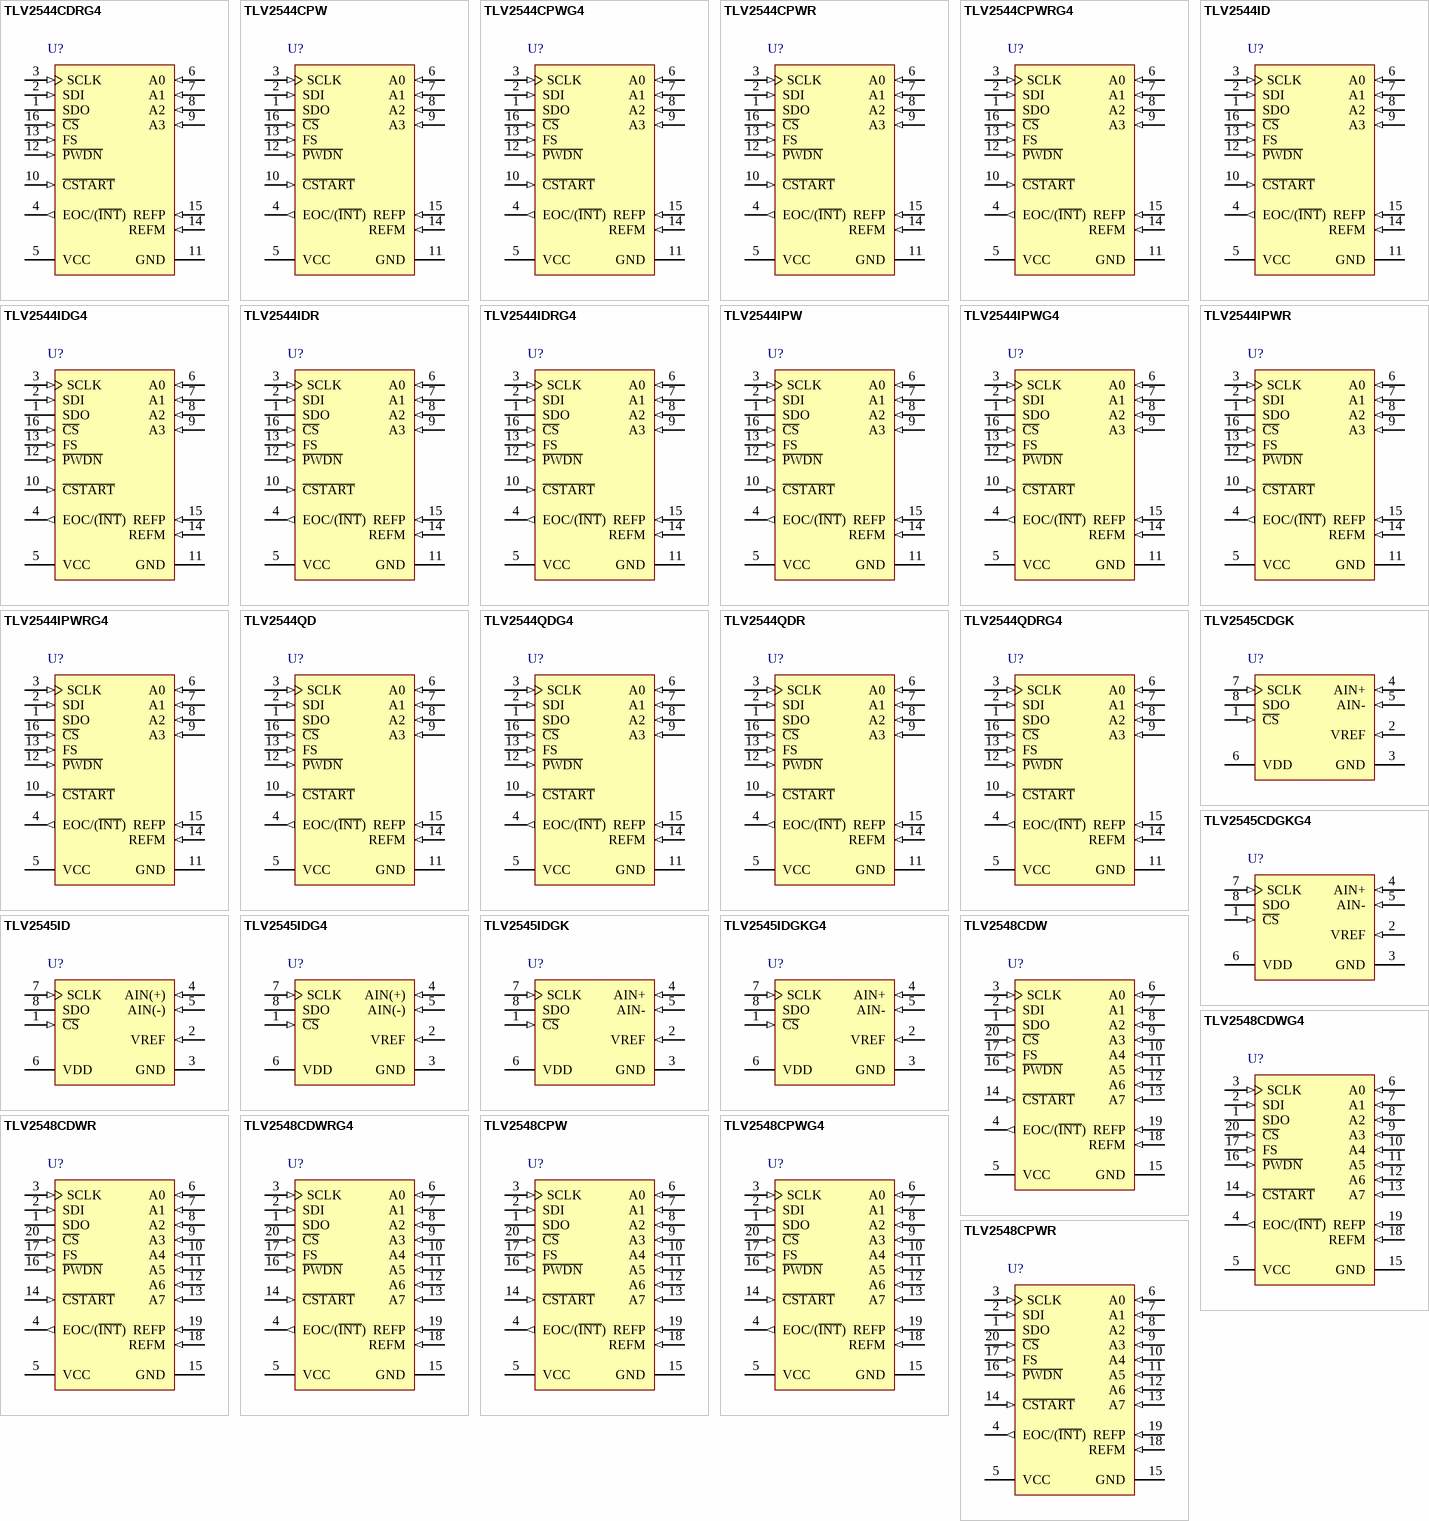
[diagram p123: symbols TLV2544CDRG4 to TLV2548CPWR]

## TLV2544CDRG4
designator U?
12-Bit 200 kSPS ADC Serial Out, Auto Power Down (Software and Hardware), Low Power with 8 x FIFO with 4 Channel, 0 to 70 degC, 16-pin SOIC (D16), Green (RoHS & no Sb/Br); Manufacturer: Texas Instruments; PartNumber: TLV2544CDRG4; # Input Channels: 4; Analog Voltage AV/DD(Max)(V): 5.5; Analog Voltage AV/DD(Min)(V): 2.7; Architecture: SAR; ENOB(Bits): 11.6; INL(Max)(+/-LSB): 1; Interface: Serial SPI; Resolution(Bits): 12; Sample Rate (max)(SPS): 200k; SFDR(dB): 84; SINAD(dB): 70; SubFamily: Precision ADC (<=10MSPS); DatasheetVersion: SLAS198E; PackageVersion: 4040047-6/M, 06/2011; PackageReference: D16; PackageDescription: 16-Pin Plastic Small Outline, Body 9.9 x 3.9 mm, Pitch 1.27 mm; Supplier 1: Digi-Key; Supplier Part Number 1: ADS4128IRGZR-ND; Supplier 2: Newark; Supplier Part Number 2: 06W1988; Supplier 3: Mouser; Supplier Part Number 3: 595-ADS4128IRGZR; Digital Supply(Max)(V): 5.5; Digital Supply(Min)(V): 2.7; Eco-Plan: Green (RoHS & no Sb/Br); Mounting Technology: Surface Mount; Code_JEDEC: MS-012; ComponentLink1Description: Manufacturer URL; ComponentLink1URL: http://www.ti.com/; ComponentLink2Description: Datasheet; ComponentLink2URL: http://www.ti.com/general/docs/lit/getliterature.tsp?genericPartNumber=TLV2544&fileType=pdf; ComponentLink3Description: Package Specification; ComponentLink3URL: http://www.ti.com/litv/pdf/mpds178g
footprint TI-D16_N (SOIC, 16-Leads, Body 9.9x3.9mm, Pitch 1.27mm, IPC Medium Density)
footprint TI-D16_L (SOIC, 16-Leads, Body 9.9x3.9mm, Pitch 1.27mm, IPC High Density)
footprint TI-D16_M (SOIC, 16-Leads, Body 9.9x3.9mm, Pitch 1.27mm, IPC Low Density)
pins: 1 SDO (hiz) "The 3-state serial output for the A/D conversion result.", 2 SDI (in) "Serial data input.", 3 SCLK (in) "Input serial clock.", 4 EOC/(~{INT}) (out) "End of conversion or interrupt to host processor.", 5 VCC (power) "Positive supply voltage.", 6 A0 (in) "Analog signal inputs.", 7 A1 (in) "Analog signal inputs.", 8 A2 (in) "Analog signal inputs.", 9 A3 (in) "Analog signal inputs.", 10 ~{CSTART} (in) "This terminal controls the start of sampling of the analog input from a selected multiplex channel.", 11 GND (power) "Ground return for the internal circuitry.", 12 ~{PWDN} (in) "Both analog and reference circuits are powered down when this pin is at logic zero.", 13 FS (in) "DSP frame sync input. Indication of the start of a serial data frame in or out of the device.", 14 REFM (in) "External reference input or internal reference decoupling.", 15 REFP (in) "External reference input or internal reference decoupling.", 16 ~{CS} (in) "Chip select."

## TLV2544CPW
designator U?
12-Bit 200 kSPS ADC Serial Out, Auto Power Down (Software and Hardware), Low Power with 8 x FIFO with 4 Channel, 0 to 70 degC, 16-pin SOP (PW16), Green (RoHS & no Sb/Br); Manufacturer: Texas Instruments; PartNumber: TLV2544CPW; # Input Channels: 4; Analog Voltage AV/DD(Max)(V): 5.5; Analog Voltage AV/DD(Min)(V): 2.7; Architecture: SAR; ENOB(Bits): 11.6; INL(Max)(+/-LSB): 1; Interface: Serial SPI; Resolution(Bits): 12; Sample Rate (max)(SPS): 200k; SFDR(dB): 84; SINAD(dB): 70; SubFamily: Precision ADC (<=10MSPS); DatasheetVersion: SLAS198E; PackageVersion: 4040064-4/G, 02/2011; PackageReference: PW16; PackageDescription: 16-Pin Plastic Small Outline, Body 5 x 4.4 mm, Pitch 0.65 mm; Supplier 1: Digi-Key; Supplier Part Number 1: 296-30542-2-ND; Supplier 2: Digi-Key; Supplier Part Number 2: 296-30542-1-ND; Supplier 3: Digi-Key; Supplier Part Number 3: 296-30542-6-ND; Supplier 4: Newark; Supplier Part Number 4: 06W1989; Supplier 5: Mouser; Supplier Part Number 5: 595-ADS4128IRGZT; Digital Supply(Max)(V): 5.5; Digital Supply(Min)(V): 2.7; Eco-Plan: Green (RoHS & no Sb/Br); Mounting Technology: Surface Mount; Code_JEDEC: MO-153; ComponentLink1Description: Manufacturer URL; ComponentLink1URL: http://www.ti.com/; ComponentLink2Description: Datasheet; ComponentLink2URL: http://www.ti.com/general/docs/lit/getliterature.tsp?genericPartNumber=TLV2544&fileType=pdf; ComponentLink3Description: Package Specification; ComponentLink3URL: http://www.ti.com/lit/ml/mpds361/mpds361.pdf
footprint TI-PW16_N (SOP, 16-Leads, Body 5x4.4mm, Pitch 0.65mm, IPC Medium Density)
footprint TI-PW16_L (SOP, 16-Leads, Body 5x4.4mm, Pitch 0.65mm, IPC High Density)
footprint TI-PW16_M (SOP, 16-Leads, Body 5x4.4mm, Pitch 0.65mm, IPC Low Density)
pins: 1 SDO (hiz) "The 3-state serial output for the A/D conversion result.", 2 SDI (in) "Serial data input.", 3 SCLK (in) "Input serial clock.", 4 EOC/(~{INT}) (out) "End of conversion or interrupt to host processor.", 5 VCC (power) "Positive supply voltage.", 6 A0 (in) "Analog signal inputs.", 7 A1 (in) "Analog signal inputs.", 8 A2 (in) "Analog signal inputs.", 9 A3 (in) "Analog signal inputs.", 10 ~{CSTART} (in) "This terminal controls the start of sampling of the analog input from a selected multiplex channel.", 11 GND (power) "Ground return for the internal circuitry.", 12 ~{PWDN} (in) "Both analog and reference circuits are powered down when this pin is at logic zero.", 13 FS (in) "DSP frame sync input. Indication of the start of a serial data frame in or out of the device.", 14 REFM (in) "External reference input or internal reference decoupling.", 15 REFP (in) "External reference input or internal reference decoupling.", 16 ~{CS} (in) "Chip select."

## TLV2544CPWG4
designator U?
12-Bit 200 kSPS ADC Serial Out, Auto Power Down (Software and Hardware), Low Power with 8 x FIFO with 4 Channel, 0 to 70 degC, 16-pin SOP (PW16), Green (RoHS & no Sb/Br); Manufacturer: Texas Instruments; PartNumber: TLV2544CPWG4; # Input Channels: 4; Analog Voltage AV/DD(Max)(V): 5.5; Analog Voltage AV/DD(Min)(V): 2.7; Architecture: SAR; ENOB(Bits): 11.6; INL(Max)(+/-LSB): 1; Interface: Serial SPI; Resolution(Bits): 12; Sample Rate (max)(SPS): 200k; SFDR(dB): 84; SINAD(dB): 70; SubFamily: Precision ADC (<=10MSPS); DatasheetVersion: SLAS198E; PackageVersion: 4040064-4/G, 02/2011; PackageReference: PW16; PackageDescription: 16-Pin Plastic Small Outline, Body 5 x 4.4 mm, Pitch 0.65 mm; Supplier 1: Digi-Key; Supplier Part Number 1: ADC08D502CIYB/NOPB-ND; Supplier 2: Newark; Supplier Part Number 2: 47W4392; Supplier 3: Mouser; Supplier Part Number 3: 595-ADC08D502CIYBNPB; Digital Supply(Max)(V): 5.5; Digital Supply(Min)(V): 2.7; Eco-Plan: Green (RoHS & no Sb/Br); Mounting Technology: Surface Mount; Code_JEDEC: MO-153; ComponentLink1Description: Manufacturer URL; ComponentLink1URL: http://www.ti.com/; ComponentLink2Description: Datasheet; ComponentLink2URL: http://www.ti.com/general/docs/lit/getliterature.tsp?genericPartNumber=TLV2544&fileType=pdf; ComponentLink3Description: Package Specification; ComponentLink3URL: http://www.ti.com/lit/ml/mpds361/mpds361.pdf
footprint TI-PW16_N (SOP, 16-Leads, Body 5x4.4mm, Pitch 0.65mm, IPC Medium Density)
footprint TI-PW16_L (SOP, 16-Leads, Body 5x4.4mm, Pitch 0.65mm, IPC High Density)
footprint TI-PW16_M (SOP, 16-Leads, Body 5x4.4mm, Pitch 0.65mm, IPC Low Density)
pins: 1 SDO (hiz) "The 3-state serial output for the A/D conversion result.", 2 SDI (in) "Serial data input.", 3 SCLK (in) "Input serial clock.", 4 EOC/(~{INT}) (out) "End of conversion or interrupt to host processor.", 5 VCC (power) "Positive supply voltage.", 6 A0 (in) "Analog signal inputs.", 7 A1 (in) "Analog signal inputs.", 8 A2 (in) "Analog signal inputs.", 9 A3 (in) "Analog signal inputs.", 10 ~{CSTART} (in) "This terminal controls the start of sampling of the analog input from a selected multiplex channel.", 11 GND (power) "Ground return for the internal circuitry.", 12 ~{PWDN} (in) "Both analog and reference circuits are powered down when this pin is at logic zero.", 13 FS (in) "DSP frame sync input. Indication of the start of a serial data frame in or out of the device.", 14 REFM (in) "External reference input or internal reference decoupling.", 15 REFP (in) "External reference input or internal reference decoupling.", 16 ~{CS} (in) "Chip select."

## TLV2544CPWR
designator U?
12-Bit 200 kSPS ADC Serial Out, Auto Power Down (Software and Hardware), Low Power with 8 x FIFO with 4 Channel, 0 to 70 degC, 16-pin SOP (PW16), Green (RoHS & no Sb/Br); Manufacturer: Texas Instruments; PartNumber: TLV2544CPWR; # Input Channels: 4; Analog Voltage AV/DD(Max)(V): 5.5; Analog Voltage AV/DD(Min)(V): 2.7; Architecture: SAR; ENOB(Bits): 11.6; INL(Max)(+/-LSB): 1; Interface: Serial SPI; Resolution(Bits): 12; Sample Rate (max)(SPS): 200k; SFDR(dB): 84; SINAD(dB): 70; SubFamily: Precision ADC (<=10MSPS); DatasheetVersion: SLAS198E; PackageVersion: 4040064-4/G, 02/2011; PackageReference: PW16; PackageDescription: 16-Pin Plastic Small Outline, Body 5 x 4.4 mm, Pitch 0.65 mm; Supplier 1: Digi-Key; Supplier Part Number 1: ADS42B49IRGCT-ND; Supplier 2: Newark; Supplier Part Number 2: 55W5782; Supplier 3: Mouser; Supplier Part Number 3: 595-ADS42B49IRGCT; Digital Supply(Max)(V): 5.5; Digital Supply(Min)(V): 2.7; Eco-Plan: Green (RoHS & no Sb/Br); Mounting Technology: Surface Mount; Code_JEDEC: MO-153; ComponentLink1Description: Manufacturer URL; ComponentLink1URL: http://www.ti.com/; ComponentLink2Description: Datasheet; ComponentLink2URL: http://www.ti.com/general/docs/lit/getliterature.tsp?genericPartNumber=TLV2544&fileType=pdf; ComponentLink3Description: Package Specification; ComponentLink3URL: http://www.ti.com/lit/ml/mpds361/mpds361.pdf
footprint TI-PW16_N (SOP, 16-Leads, Body 5x4.4mm, Pitch 0.65mm, IPC Medium Density)
footprint TI-PW16_L (SOP, 16-Leads, Body 5x4.4mm, Pitch 0.65mm, IPC High Density)
footprint TI-PW16_M (SOP, 16-Leads, Body 5x4.4mm, Pitch 0.65mm, IPC Low Density)
pins: 1 SDO (hiz) "The 3-state serial output for the A/D conversion result.", 2 SDI (in) "Serial data input.", 3 SCLK (in) "Input serial clock.", 4 EOC/(~{INT}) (out) "End of conversion or interrupt to host processor.", 5 VCC (power) "Positive supply voltage.", 6 A0 (in) "Analog signal inputs.", 7 A1 (in) "Analog signal inputs.", 8 A2 (in) "Analog signal inputs.", 9 A3 (in) "Analog signal inputs.", 10 ~{CSTART} (in) "This terminal controls the start of sampling of the analog input from a selected multiplex channel.", 11 GND (power) "Ground return for the internal circuitry.", 12 ~{PWDN} (in) "Both analog and reference circuits are powered down when this pin is at logic zero.", 13 FS (in) "DSP frame sync input. Indication of the start of a serial data frame in or out of the device.", 14 REFM (in) "External reference input or internal reference decoupling.", 15 REFP (in) "External reference input or internal reference decoupling.", 16 ~{CS} (in) "Chip select."